# EAGLE library part MCP23008 (library misc)
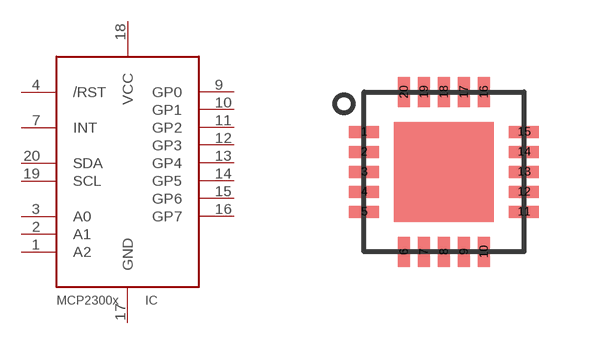
[diagram p1: symbol with the pads of QFN20; footprint QFN20]

Designator prefix IC

## MCP23008  [QFN20]
1  A2  in
2  A1  in
3  A0  in
4  /RST  in
7  INT  out
9  GP0
10  GP1
11  GP2
12  GP3
13  GP4
14  GP5
15  GP6
16  GP7
17  GND  pwr
18  VCC  pwr
19  SCL
20  SDA

## Footprint QFN20 (pad centres in mm)
smd 0.75 x 0.3: 1 -2,1; 2 -2,0.5; 3 -2,0; 4 -2,-0.5; 5 -2,-1; 11 2,-1; 12 2,-0.5; 13 2,0; 14 2,0.5; 15 2,1
smd 0.3 x 0.75: 6 -1,-2; 7 -0.5,-2; 8 0,-2; 9 0.5,-2; 10 1,-2; 16 1,2; 17 0.5,2; 18 0,2; 19 -0.5,2; 20 -1,2